# EAGLE library part 7499411000 (library Wurth Electronics Midcom Inc V1-0)
Package Style: RJ45 10/100 PoE+ Mounting: THT LED: None Shield: 293-0597 Header: 183-0219 Windings Primary: Aux: Secondary: Best pinouts for production vary per application. Please contact Wurth Electronics Midcom, Inc. for assistance with your custom design. Datasheet: 7499411000 <http://katalog.we-online.de/kataloge/eisos/media/pdf/7499411000.pdf> Website: Wurth Electronics Midcom <http://www.we-online.com/midcom> Contact us Wurth Electronics Midcom, Inc. 121 Airport Dr. Watertown, SD 57201 Phone: (605) 886-4385 Fax: (605) 886-4486 E-Mail: midcom@we-online.com
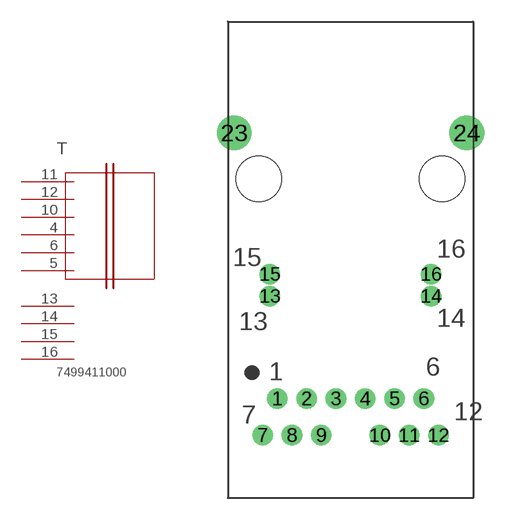
[diagram p172: symbol with the pads of 01LAN_RJ45_10/00_POE+; footprint 01LAN_RJ45_10/00_POE+]

Designator prefix T

## 7499411000  [01LAN_RJ45_10/00_POE+]
4  4  pas
5  6  pas
6  5  pas
10  3  pas
11  1  pas
12  2  pas
13  7  pas
14  8  pas
15  9  pas
16  10  pas

## Footprint 01LAN_RJ45_10/00_POE+ (pad centres in mm)
Package Style: RJ45 10/100 PoE Mounting: THT LED: None
drill 0.914 round: 1 -5.08,-9.627; 2 -3.048,-9.627; 3 -1.016,-9.627; 4 1.016,-9.627; 5 3.048,-9.627; 6 5.08,-9.627; 7 -6.096,-12.167; 8 -4.064,-12.167; 9 -2.032,-12.167; 10 2.032,-12.167; 11 4.064,-12.167; 12 6.096,-12.167; 13 -5.588,-2.515; 14 5.588,-2.515; 15 -5.588,-0.991; 16 5.588,-0.991
drill 1.6 round: 23 -8.065,8.788; 24 8.065,8.788
hole 3.15 at -6.35,5.613
hole 3.15 at 6.35,5.613